# EAGLE library part AS-ITM-00389 (library tinycircuits)
IC MOTOR DRIVER I2C 10MSOP
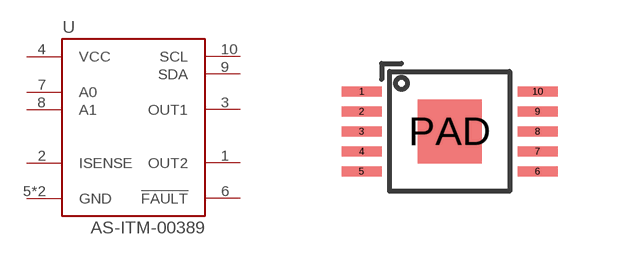
[diagram p159: symbol with the pads of MSOP10; footprint MSOP10]

Designator prefix U

## AS-ITM-00389 (PARTNO: AS-ITM-00389; VALUE: DRV8830)  [MSOP10]
1  OUT2
2  ISENSE
3  OUT1
4  VCC
5  GND
6  !FAULT
7  A0
8  A1
9  SDA
10  SCL
PAD  GND

## Footprint MSOP10 (pad centres in mm)
smd 1 x 0.25: 1 -2.2,1; 2 -2.2,0.5; 3 -2.2,0; 4 -2.2,-0.5; 5 -2.2,-1; 6 2.2,-1; 7 2.2,-0.5; 8 2.2,0; 9 2.2,0.5; 10 2.2,1
smd 1.6 x 1.6: PAD 0,0